# Altium schematic symbol library comp_q_0.Schlib: 1 symbol
Pins are listed as number, name and electrical type; pins without a type are passive.

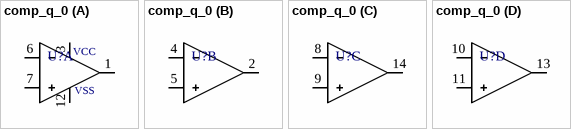
[diagram p0: symbol comp_q_0]

## comp_q_0
designator U?  (value not drawn)
Quad Comparator, Generic
part A pins: 1, 3, 6, 7, 12
part B pins: 2, 4, 5
part C pins: 8, 9, 14
part D pins: 10, 11, 13
part A text: VCC; VSS